# Altium footprint library Connectors.PcbLib: 18 footprints (part 1 of 2)
Each footprint in its own frame and in the unit in brackets; x right, y up, seen from the top. Pads: shape width x height; smd on the part's side, far side on the other; paste and mask are expansions set on the pad; w line width, h text height; cw(c..) or ccw(c..) is an arc to the next point about the centre after c.
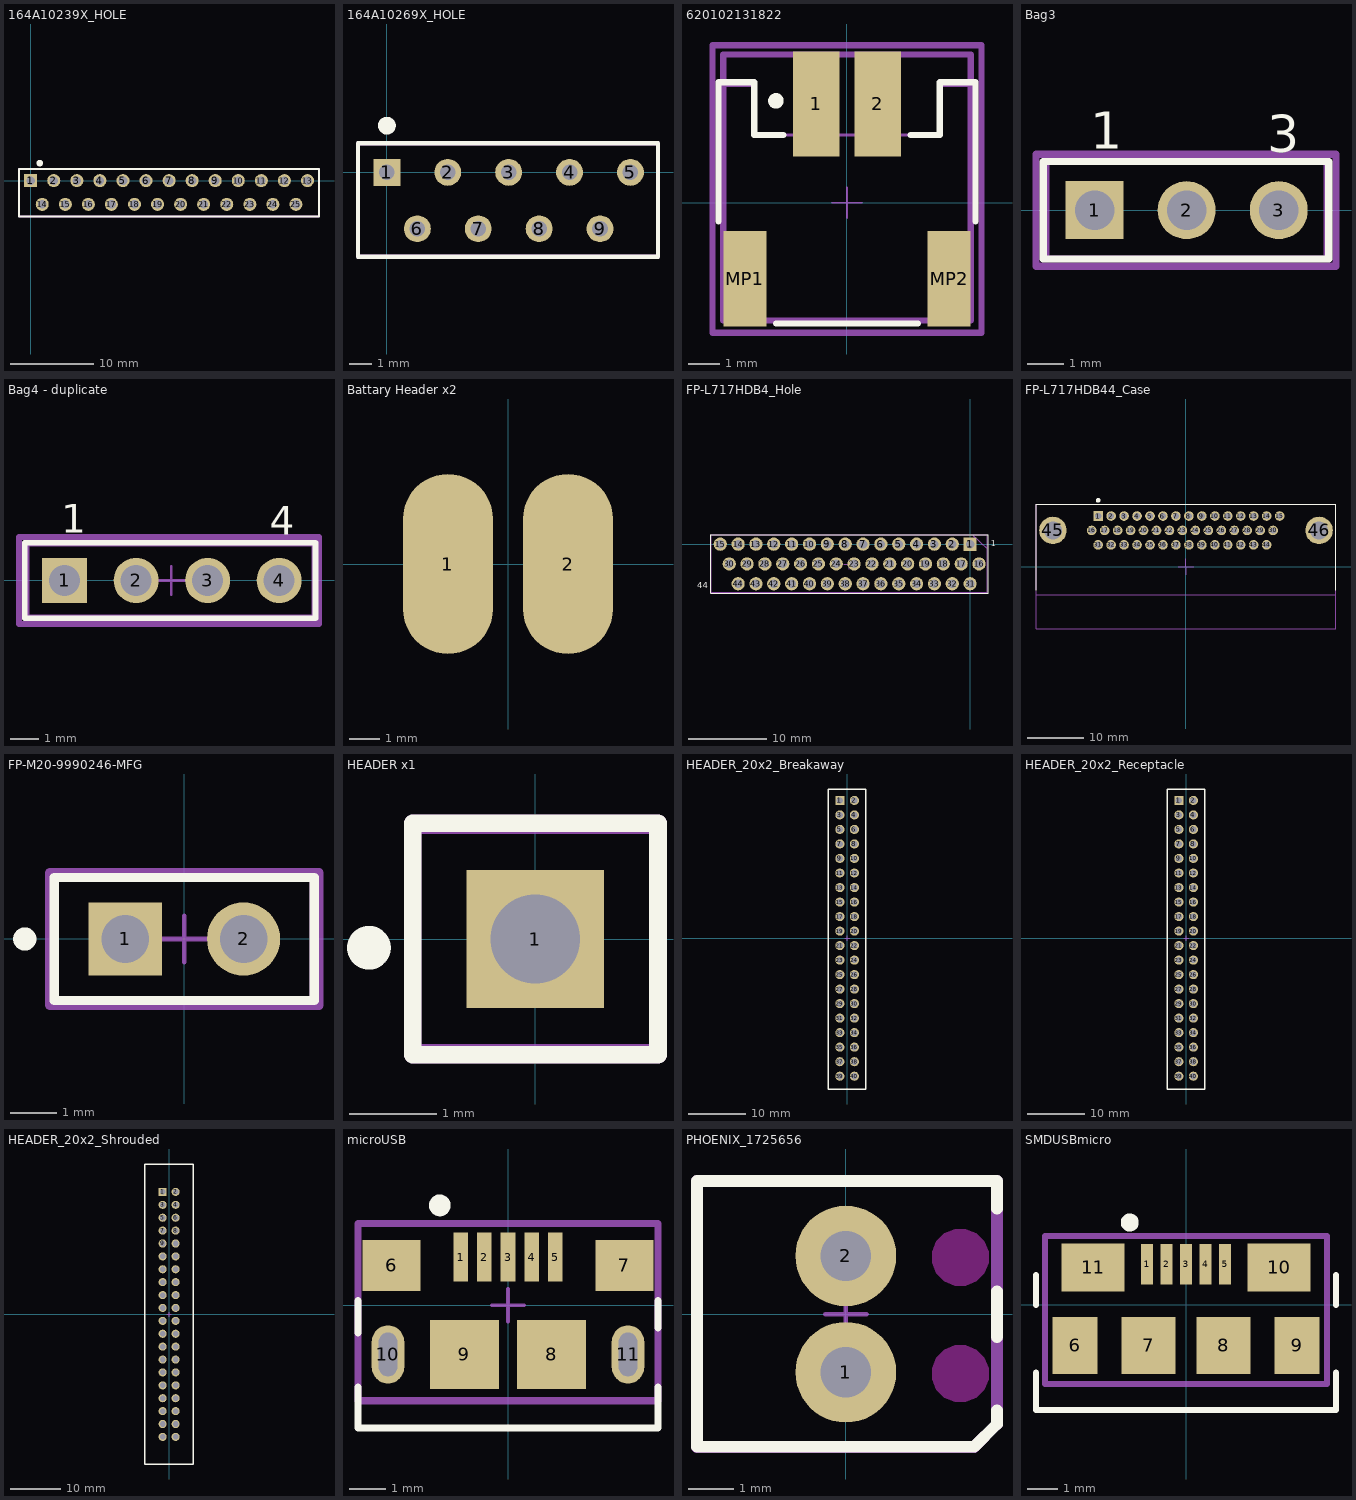
[diagram p0: the footprints below, top view; thin cyan lines are the x and y axes]

## 164A10239X_HOLE [mm]
pads (25):
  rect 1.56x1.56 hole 1.04: 1(0,0)
  round 1.56 hole 1.04: 2(2.76,0) 3(5.52,0) 4(8.28,0) 5(11.04,0) 6(13.8,0) 7(16.56,0) 8(19.32,0) 9(22.08,0) 10(24.84,0) 11(27.6,0) 12(30.36,0) 13(33.12,0) 14(1.38,-2.84) 15(4.14,-2.84) 16(6.9,-2.84) 17(9.66,-2.84) 18(12.42,-2.84) 19(15.18,-2.84) 20(17.94,-2.84) 21(20.7,-2.84) 22(23.46,-2.84) 23(26.22,-2.84) 24(28.98,-2.84) 25(31.74,-2.84)
Top Overlay:
  circle w0.4: c1.08,2.095 r0.2
  lines w0.2: -1.4,-4.3 -1.4,1.4 34.5,1.4 34.5,-4.3 -1.4,-4.3
Top Assembly:
  lines w0.2: -1.4,-4.301 -1.4,1.4 34.5,1.4 34.5,-4.3 -1.4,-4.301
Mechanical 15:
  lines w0.2: -1.4,-4.3 -1.4,1.4 34.5,1.4 34.5,-4.3 -1.4,-4.3

## 164A10269X_HOLE [mm]
pads (9):
  rect 1.208x1.208 hole 0.7: 1(0,0)
  round 1.208 hole 0.7: 2(2.74,0) 3(5.48,0) 4(8.22,0) 5(10.96,0) 6(1.37,-2.54) 7(4.11,-2.54) 8(6.85,-2.54) 9(9.59,-2.54)
Top Overlay:
  circle w0.4: c0,2.1 r0.2
  lines w0.2: -1.3,-3.8 12.2,-3.8 12.2,1.3 -1.3,1.3 -1.3,-3.8
Top Assembly:
  lines w0.2: -1.3,-3.8 12.2,-3.8 12.2,1.3 -1.3,1.3 -1.3,-3.8
Mechanical 15:
  lines w0.2: -1.3,-3.8 12.2,-3.8 12.2,1.3 -1.3,1.3 -1.3,-3.8

## 620102131822 [mm]
pads (4):
  rect 1.5x3.4 smd: 1(-1,3.2) 2(1,3.2)
  rect 1.4x3.1 smd: MP1(-3.3,-2.45) MP2(3.3,-2.45)
Top Overlay:
  circle w0.25: c-2.3,3.3 r0.125
  lines w0.2: -4.15,-0.6 -4.15,3.9 -3,3.9 -3,2.2 -2.05,2.2 ; -2.3,-3.9 2.3,-3.9 ; 2.05,2.2 3,2.2 3,3.9 4.15,3.9 4.15,-0.6
Top Assembly:
  lines w0.1: -4,-3.8 -4,3.8 -3,3.8 -3,2.2 3,2.2 3,3.8 4,3.8 4,-3.8 -4,-3.8
3D:
  lines w0.2: -4,-3.8 -4,4.8 4,4.8 4,-3.8 -4,-3.8
Mechanical 15:
  lines w0.05: -0.5,0 0.5,0 ; 0,-0.5 0,0.5
  lines w0.2: -4.35,-4.2 -4.35,5.1 4.35,5.1 4.35,-4.2 -4.35,-4.2
3D body "620102131822.stp": height 5.57, standoff -0.01, extent -4,-3.8 4,4.8

## Bag3 [mm]
pads (3):
  rect 1.6x1.6 hole 1.1: 1(-10.16,0)
  round 1.6 hole 1.1: 2(-7.62,0) 3(-5.08,0)
Top Overlay:
  lines w0.2: -11.58,-1.345 -3.7,-1.345 -3.7,1.345 -11.58,1.345 -11.58,-1.345
  text "1" at -10.28,1.7 h1.02
  text "3" at -5.4,1.6 h1.02
Top Assembly:
  lines w0.1: -11.464,-1.3 -11.464,1.3 -3.8,1.3 -3.8,-1.3 -11.464,-1.3
Mechanical 15:
  lines w0.1: -8.12,0 -7.12,0 ; -7.62,-0.5 -7.62,0.5
  lines w0.2: -11.78,-1.545 -11.78,1.545 -3.5,1.545 -3.5,-1.545 -11.78,-1.545
3D body "81h5184_826629-3.stp": height 9.5, standoff -3.2, extent -11.43,-1.25 -3.81,1.25

## Bag4 - duplicate [mm]
pads (4):
  rect 1.6x1.6 hole 1.1: 1(-10.16,0)
  round 1.6 hole 1.1: 2(-7.62,0) 3(-5.08,0) 4(-2.54,0)
Top Overlay:
  lines w0.2: -11.58,-1.345 -1.25,-1.345 -1.25,1.345 -11.58,1.345 -11.58,-1.345
  text "1" at -10.28,1.7 h1.02
  text "4" at -2.875,1.625 h1.02
Top Assembly:
  lines w0.1: -11.625,-1.27 -11.625,1.27 -1.25,1.27 -1.25,-1.27 -11.625,-1.27
3D:
  lines w0.2: -11.5,-1.3 -1.3,-1.3 -1.3,1.3 -11.5,1.3 -11.5,-1.3
Mechanical 15:
  lines w0.1: -6.875,0 -5.875,0 ; -6.375,-0.5 -6.375,0.5
  lines w0.2: -11.78,-1.545 -11.78,1.545 -1.125,1.545 -1.125,-1.545 -11.78,-1.545
3D body "Conn_Harwin_M20-9990246_eec.STEP": height 8.99, standoff -2.94, extent -11.415,-1.271 -6.335,1.27
3D body "Conn_Harwin_M20-9990246_eec.STEP": height 8.99, standoff -2.94, extent -6.415,-1.271 -1.335,1.27

## Battary Header x2 [mm]
pads (2):
  oval 3x6 smd: 1(-2,0) 2(2,0)

## FP-L717HDB4_Hole [mm]
pads (44):
  rect 1.7x1.7 hole 1.1 paste-1000 mask+0: 1(0,0)
  round 1.7 hole 1.1 paste-1000 mask+0: 2(-2.29,0) 3(-4.58,0) 4(-6.87,0) 5(-9.16,0) 6(-11.45,0) 7(-13.74,0) 8(-16.03,0) 9(-18.32,0) 10(-20.61,0) 11(-22.9,0) 12(-25.19,0) 13(-27.48,0) 14(-29.77,0) 15(-32.06,0) 16(1.145,-2.54) 17(-1.145,-2.54) 18(-3.435,-2.54) 19(-5.725,-2.54) 20(-8.015,-2.54) 21(-10.305,-2.54) 22(-12.595,-2.54) 23(-14.885,-2.54) 24(-17.175,-2.54) 25(-19.465,-2.54) 26(-21.755,-2.54) 27(-24.045,-2.54) 28(-26.335,-2.54) 29(-28.625,-2.54) 30(-30.915,-2.54) 31(0,-5.08) 32(-2.29,-5.08) 33(-4.58,-5.08) 34(-6.87,-5.08) 35(-9.16,-5.08) 36(-11.45,-5.08) 37(-13.74,-5.08) 38(-16.03,-5.08) 39(-18.32,-5.08) 40(-20.61,-5.08) 41(-22.9,-5.08) 42(-25.19,-5.08) 43(-27.48,-5.08) 44(-29.77,-5.08)
Top Overlay:
  lines w0.153: -33.3,-6.3 2.3,-6.3 2.3,1.2 -33.3,1.2 -33.3,-6.3
  text "44" at -35.047,-5.647 h0.8
  text "1" at 2.653,-0.247 h0.8
Top Assembly:
  lines w0.1: 0.3,1.2 2.2,-0.6 ; -33.2,-6.2 2.2,-6.201 2.2,1.2 -33.2,1.2 -33.2,-6.2
Mechanical 15:
  lines w0.1: -16.2,-2.605 -15.508,-2.605 ; -15.508,-3.2 -15.508,-2.605 ; -15.508,-2 -15.508,-2.605 ; -14.8,-2.605 -15.508,-2.605 ; -33.2,-6.2 -33.2,1.2 2.2,1.2 2.2,-6.2 -33.2,-6.2
3D body "d-sub 44 v3.step": height 13.3, standoff -0.3, extent -42.018,-30.604 11.018,0.839

## FP-L717HDB44_Case [mm]
pads (46):
  rect 1.7x1.7 hole 1.1 paste-1000 mask+0: 1(-15.52,8.92)
  round 1.7 hole 1.1 paste-1000 mask+0: 2(-13.23,8.92) 3(-10.94,8.92) 4(-8.65,8.92) 5(-6.36,8.92) 6(-4.07,8.92) 7(-1.78,8.92) 8(0.51,8.92) 9(2.8,8.92) 10(5.09,8.92) 11(7.38,8.92) 12(9.67,8.92) 13(11.96,8.92) 14(14.25,8.92) 15(16.54,8.92) 16(-16.665,6.38) 17(-14.375,6.38) 18(-12.085,6.38) 19(-9.795,6.38) 20(-7.505,6.38) 21(-5.215,6.38) 22(-2.925,6.38) 23(-0.635,6.38) 24(1.655,6.38) 25(3.945,6.38) 26(6.235,6.38) 27(8.525,6.38) 28(10.815,6.38) 29(13.105,6.38) 30(15.395,6.38) 31(-15.52,3.84) 32(-13.23,3.84) 33(-10.94,3.84) 34(-8.65,3.84) 35(-6.36,3.84) 36(-4.07,3.84) 37(-1.78,3.84) 38(0.51,3.84) 39(2.8,3.84) 40(5.09,3.84) 41(7.38,3.84) 42(9.67,3.84) 43(11.96,3.84) 44(14.25,3.84)
  round 4.85 hole 3.2 paste-1000 mask+0: 45(-23.52,6.38) 46(23.52,6.38)
Top Overlay:
  circle w0.4: c-15.52,11.695 r0.2
  lines w0.2: -26.5,-4.2 -26.5,11 26.5,11 26.5,-4.2
Top Assembly:
  lines w0.2: -26.5,-5.001 -26.5,11 26.5,11 26.5,-5 -26.5,-5.001
Mechanical 15:
  lines w0.2: -1.4,0 0,0 0,1.4 ; 0.012,-1.415 0.012,-0.015 1.412,-0.015 ; -26.5,-11 -26.5,11 26.5,11 26.5,-11 -26.5,-11
3D body "Conn_Amphenol_L717HDB44PD1CH4F_eec.STEP": height 12.93, standoff -3.56, extent -26.52,-11.03 26.52,11.07

## FP-M20-9990246-MFG [mm]
pads (2):
  rect 1.57x1.57 hole 1.02 paste-1000 mask+0: 1(-1.27,0)
  round 1.57 hole 1.02 paste-1000 mask+0: 2(1.27,0)
Top Overlay:
  circle w0.25: c-3.425,0 r0.125
  lines w0.2: -2.79,-1.32 -2.79,1.32 2.79,1.32 2.79,-1.32 -2.79,-1.32
Top Assembly:
  lines w0.2: -2.79,-1.32 2.79,-1.32 2.79,1.32 -2.79,1.32 -2.79,-1.32
Mechanical 13:
  lines w0.1: -0.5,0 0.5,0 ; 0,-0.5 0,0.5
Mechanical 15:
  lines w0.2: -2.89,-1.42 -2.89,1.42 2.89,1.42 2.89,-1.42 -2.89,-1.42
3D body "Conn_Harwin_M20-9990246_eec.STEP": height 8.99, standoff -2.94, extent -2.54,-1.271 2.54,1.27

## HEADER x1 [mm]
pads (1):
  rect 1.57x1.57 hole 1.02 paste-1000 mask+0: 1(0,0)
Top Overlay:
  circle w0.25: c-1.9,-0.1 r0.125
  lines w0.2: -1.4,-1.32 1.4,-1.32 1.4,1.32 -1.4,1.32 -1.4,-1.32
Top Assembly:
  lines w0.2: -1.4,-1.32 -1.4,1.32 1.4,1.32 1.4,-1.32 -1.4,-1.32
Mechanical 13:
  lines w0.1: -0.5,0 0.5,0 ; 0,-0.5 0,0.5
Mechanical 15:
  lines w0.2: -1.4,-1.3 1.4,-1.3 1.4,1.3 -1.4,1.3 -1.4,-1.3

## HEADER_20x2_Breakaway [mm]
pads (40):
  rect 1.6x1.6 hole 1.1 square: 1(-1.27,24.13)
  round 1.6 hole 1.1: 2(1.27,24.13) 3(-1.27,21.59) 4(1.27,21.59) 5(-1.27,19.05) 6(1.27,19.05) 7(-1.27,16.51) 8(1.27,16.51) 9(-1.27,13.97) 10(1.27,13.97) 11(-1.27,11.43) 12(1.27,11.43) 13(-1.27,8.89) 14(1.27,8.89) 15(-1.27,6.35) 16(1.27,6.35) 17(-1.27,3.81) 18(1.27,3.81) 19(-1.27,1.27) 20(1.27,1.27) 21(-1.27,-1.27) 22(1.27,-1.27) 23(-1.27,-3.81) 24(1.27,-3.81) 25(-1.27,-6.35) 26(1.27,-6.35) 27(-1.27,-8.89) 28(1.27,-8.89) 29(-1.27,-11.43) 30(1.27,-11.43) 31(-1.27,-13.97) 32(1.27,-13.97) 33(-1.27,-16.51) 34(1.27,-16.51) 35(-1.27,-19.05) 36(1.27,-19.05) 37(-1.27,-21.59) 38(1.27,-21.59) 39(-1.27,-24.13) 40(1.27,-24.13)
Top Overlay:
  lines w0.254: -3.27,-26.37 -3.27,26.13 3.23,26.13 3.23,-26.37 -3.27,-26.37
  text "." at -4.096,26.579 h1.52
Top Assembly:
  text "'.Designator'" at -3.221,26.782 h0.8
Mechanical 15:
  lines w0.1: -0.45,0 0.45,0 ; 0,-0.45 0,0.45
3D body "2-826925-0--3DModel-STEP-1.STEP": height 9.5, standoff -3.2, extent -2.47,-25.47 2.53,25.33

## HEADER_20x2_Receptacle [mm]
pads (40):
  rect 1.6x1.6 hole 1.1 square: 1(-1.27,24.13)
  round 1.6 hole 1.1: 2(1.27,24.13) 3(-1.27,21.59) 4(1.27,21.59) 5(-1.27,19.05) 6(1.27,19.05) 7(-1.27,16.51) 8(1.27,16.51) 9(-1.27,13.97) 10(1.27,13.97) 11(-1.27,11.43) 12(1.27,11.43) 13(-1.27,8.89) 14(1.27,8.89) 15(-1.27,6.35) 16(1.27,6.35) 17(-1.27,3.81) 18(1.27,3.81) 19(-1.27,1.27) 20(1.27,1.27) 21(-1.27,-1.27) 22(1.27,-1.27) 23(-1.27,-3.81) 24(1.27,-3.81) 25(-1.27,-6.35) 26(1.27,-6.35) 27(-1.27,-8.89) 28(1.27,-8.89) 29(-1.27,-11.43) 30(1.27,-11.43) 31(-1.27,-13.97) 32(1.27,-13.97) 33(-1.27,-16.51) 34(1.27,-16.51) 35(-1.27,-19.05) 36(1.27,-19.05) 37(-1.27,-21.59) 38(1.27,-21.59) 39(-1.27,-24.13) 40(1.27,-24.13)
Top Overlay:
  lines w0.254: -3.27,-26.37 3.23,-26.37 3.23,26.13 -3.27,26.13 -3.27,-26.37
  text "." at -4.396,26.679 h1.52
Top Assembly:
  text "'.Designator'" at -3.521,26.882 h0.8
Mechanical 15:
  lines w0.1: -0.45,0 0.45,0 ; 0,-0.45 0,0.45
3D body "m20-7832046.stp": height 8.5, standoff -3, extent -2.4,-25.6 2.6,25.6

## HEADER_20x2_Shrouded [mm]
pads (40):
  rect 1.6x1.6 hole 1.1 square: 1(-1.27,24.13)
  round 1.6 hole 1.1: 2(1.27,24.13) 3(-1.27,21.59) 4(1.27,21.59) 5(-1.27,19.05) 6(1.27,19.05) 7(-1.27,16.51) 8(1.27,16.51) 9(-1.27,13.97) 10(1.27,13.97) 11(-1.27,11.43) 12(1.27,11.43) 13(-1.27,8.89) 14(1.27,8.89) 15(-1.27,6.35) 16(1.27,6.35) 17(-1.27,3.81) 18(1.27,3.81) 19(-1.27,1.27) 20(1.27,1.27) 21(-1.27,-1.27) 22(1.27,-1.27) 23(-1.27,-3.81) 24(1.27,-3.81) 25(-1.27,-6.35) 26(1.27,-6.35) 27(-1.27,-8.89) 28(1.27,-8.89) 29(-1.27,-11.43) 30(1.27,-11.43) 31(-1.27,-13.97) 32(1.27,-13.97) 33(-1.27,-16.51) 34(1.27,-16.51) 35(-1.27,-19.05) 36(1.27,-19.05) 37(-1.27,-21.59) 38(1.27,-21.59) 39(-1.27,-24.13) 40(1.27,-24.13)
Top Overlay:
  lines w0.254: -4.77,-29.47 -4.77,29.63 4.73,29.63 4.73,-29.47 -4.77,-29.47
  text "." at -5.546,30.054 h1.52
Top Assembly:
  text "'.Designator'" at -4.421,30.282 h0.8
Mechanical 15:
  lines w0.1: -0.45,0 0.45,0 ; 0,-0.45 0,0.45
3D body "702464004.stp": height 9.55, standoff -3.14, extent -4.46,-29.19 4.43,29.23

## microUSB [mm]
pads (11):
  rect 0.4x1.35 smd: 1(-1.3,1.325) 2(-0.65,1.325) 3(0,1.325) 4(0.65,1.325) 5(1.3,1.325)
  rect 1.6x1.4 smd: 6(-3.2,1.1) 7(3.2,1.1)
  rect 1.9x1.9 smd: 8(1.2,-1.35) 9(-1.2,-1.35)
  oval 0.9x1.6 hole 1.2 slot 0.5 at 0 deg: 10(-3.3,-1.35) 11(3.3,-1.35)
Top Overlay:
  circle w0.3: c-1.875,2.75 r0.15
  lines w0.2: -4.125,-2.25 -4.125,-3.375 4.125,-3.375 4.125,-2.25 ; -4.125,-0.75 -4.125,0.125 ; 4.125,-0.625 4.125,0.125
Top Assembly:
  lines w0.2: -4.125,-2.625 -4.125,2.25 4.125,2.25 4.125,-2.625 -4.125,-2.625
Mechanical 15:
  lines w0.1: -0.45,0 0.45,0 ; 0,-0.45 0,0.45
3D body "10118193-0001lfc.stp": height 2.83, standoff -0.77, extent -3.93,-4.113 3.927,1.548

## PHOENIX_1725656 [mm]
pads (2):
  round 2.2 hole 1.1: 1(0,-1.27) 2(0,1.27)
Top Overlay:
  lines w0.254: 3.3,-2.403 3.3,-2.1 ; 3.3,-2.4 2.805,-2.895 -3.25,-2.895 -3.25,2.905 3.3,2.905 3.3,2.3 ; 3.3,-0.5 3.3,0.5
Keep-Out Layer:
  board cut-out: 2.5,0.622 2.377,0.622 2.15,0.716 1.976,0.89 1.882,1.117 1.882,1.24 1.882,1.363 1.976,1.59 2.15,1.764 2.377,1.858 2.5,1.858 2.623,1.858 2.85,1.764 3.024,1.59 3.118,1.363 3.118,1.24 3.118,1.117 3.024,0.89 2.85,0.716 2.623,0.622
  board cut-out: 2.5,-1.918 2.377,-1.918 2.15,-1.824 1.976,-1.65 1.882,-1.423 1.882,-1.3 1.882,-1.177 1.976,-0.95 2.15,-0.776 2.377,-0.682 2.5,-0.682 2.623,-0.682 2.85,-0.776 3.024,-0.95 3.118,-1.177 3.118,-1.3 3.118,-1.423 3.024,-1.65 2.85,-1.824 2.623,-1.918
Top Assembly:
  lines w0.254: -3.25,-2.9 2.8,-2.9 3.3,-2.4 3.3,2.905 -3.25,2.905 -3.25,-2.9
  text "'.Designator'" at -4.421,3.482 h0.8
Mechanical 15:
  lines w0.1: -0.45,0 0.45,0 ; 0,-0.45 0,0.45
  lines w0.254: -3.25,-2.895 2.805,-2.895 3.3,-2.4 3.3,2.905 -3.25,2.905 -3.25,-2.895
3D body "pxc_1725656_05_MPT-0-5-2-2-54_3D.stp": height 8.5, standoff -3.5, extent -3.1,-2.765 3.1,2.775

## SMDUSBmicro [mm]
pads (11):
  rect 0.4x1.35 smd: 1(-1.3,1.35) 2(-0.65,1.35) 3(0,1.35) 4(0.65,1.35) 5(1.3,1.35)
  rect 1.5x1.9 smd: 6(-3.7,-1.35) 9(3.7,-1.35)
  rect 1.8x1.9 smd: 7(-1.25,-1.35) 8(1.25,-1.35)
  rect 2.1x1.6 smd: 10(3.1,1.25) 11(-3.1,1.25)
Top Overlay:
  circle w0.3: c-1.875,2.75 r0.15
  lines w0.2: -5,-2.25 -5,-3.5 5,-3.5 5,-2.25 ; -5,0 -5,1 ; 5,0 5,1
Top Assembly:
  lines w0.2: -4.7,-2.625 -4.7,2.3 4.7,2.3 4.7,-2.625 -4.7,-2.625
3D body "User Library-3067-47340001R-Rev_01.STEP": height 2.72, standoff -0.22, extent -4.125,-3.88 4.075,2.05